# EAGLE library part TDA19988 (library eagle-book)
HDMI 1.4 transmitter with HDCP
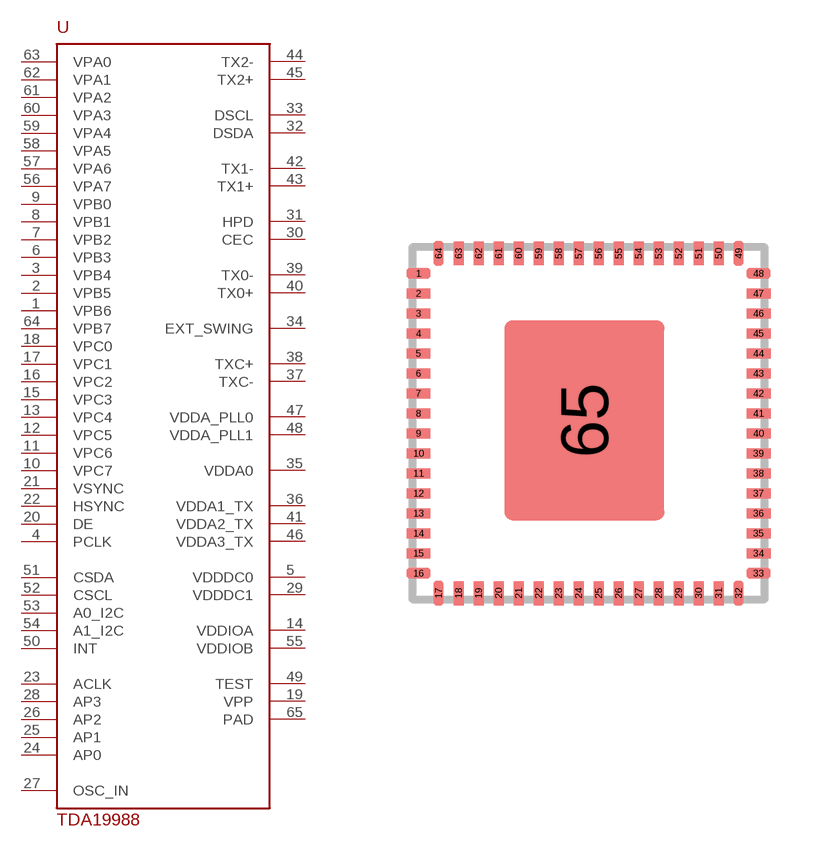
[diagram p3: symbol with the pads of QFN64-9X9; footprint QFN64-9X9]

Designator prefix U

## TDA19988  [QFN64-9X9]
1  VPB6
2  VPB5
3  VPB4
4  PCLK
5  VDDDC0
6  VPB3
7  VPB2
8  VPB1
9  VPB0
10  VPC7
11  VPC6
12  VPC5
13  VPC4
14  VDDIOA
15  VPC3
16  VPC2
17  VPC1
18  VPC0
19  VPP
20  DE
21  VSYNC
22  HSYNC
23  ACLK
24  AP0
25  AP1
26  AP2
27  OSC_IN
28  AP3
29  VDDDC1
30  CEC
31  HPD
32  DSDA
33  DSCL
34  EXT_SWING
35  VDDA0
36  VDDA1_TX
37  TXC-
38  TXC+
39  TX0-
40  TX0+
41  VDDA2_TX
42  TX1-
43  TX1+
44  TX2-
45  TX2+
46  VDDA3_TX
47  VDDA_PLL0
48  VDDA_PLL1
49  TEST
50  INT
51  CSDA
52  CSCL
53  A0_I2C
54  A1_I2C
55  VDDIOB
56  VPA7
57  VPA6
58  VPA5
59  VPA4
60  VPA3
61  VPA2
62  VPA1
63  VPA0
64  VPB7
65  PAD

## Footprint QFN64-9X9 (pad centres in mm)
64-pin Quad flat no-leads package
smd 0.6 x 0.25: 1 -4.25,3.75; 2 -4.25,3.25; 3 -4.25,2.75; 4 -4.25,2.25; 5 -4.25,1.75; 6 -4.25,1.25; 7 -4.25,0.75; 8 -4.25,0.25; 9 -4.25,-0.25; 10 -4.25,-0.75; 11 -4.25,-1.25; 12 -4.25,-1.75; 13 -4.25,-2.25; 14 -4.25,-2.75; 15 -4.25,-3.25; 16 -4.25,-3.75; 33 4.25,-3.75; 34 4.25,-3.25; 35 4.25,-2.75; 36 4.25,-2.25; 37 4.25,-1.75; 38 4.25,-1.25; 39 4.25,-0.75; 40 4.25,-0.25; 41 4.25,0.25; 42 4.25,0.75; 43 4.25,1.25; 44 4.25,1.75; 45 4.25,2.25; 46 4.25,2.75; 47 4.25,3.25; 48 4.25,3.75
smd 0.25 x 0.6: 17 -3.75,-4.25; 18 -3.25,-4.25; 19 -2.75,-4.25; 20 -2.25,-4.25; 21 -1.75,-4.25; 22 -1.25,-4.25; 23 -0.75,-4.25; 24 -0.25,-4.25; 25 0.25,-4.25; 26 0.75,-4.25; 27 1.25,-4.25; 28 1.75,-4.25; 29 2.25,-4.25; 30 2.75,-4.25; 31 3.25,-4.25; 32 3.75,-4.25; 49 3.75,4.25; 50 3.25,4.25; 51 2.75,4.25; 52 2.25,4.25; 53 1.75,4.25; 54 1.25,4.25; 55 0.75,4.25; 56 0.25,4.25; 57 -0.25,4.25; 58 -0.75,4.25; 59 -1.25,4.25; 60 -1.75,4.25; 61 -2.25,4.25; 62 -2.75,4.25; 63 -3.25,4.25; 64 -3.75,4.25
smd 4 x 5: 65 -0.105,0.07